# EAGLE library part STM32 (library Arduino)
Arduino Nano plug in module with SMT32 Nucleo-32 signal names
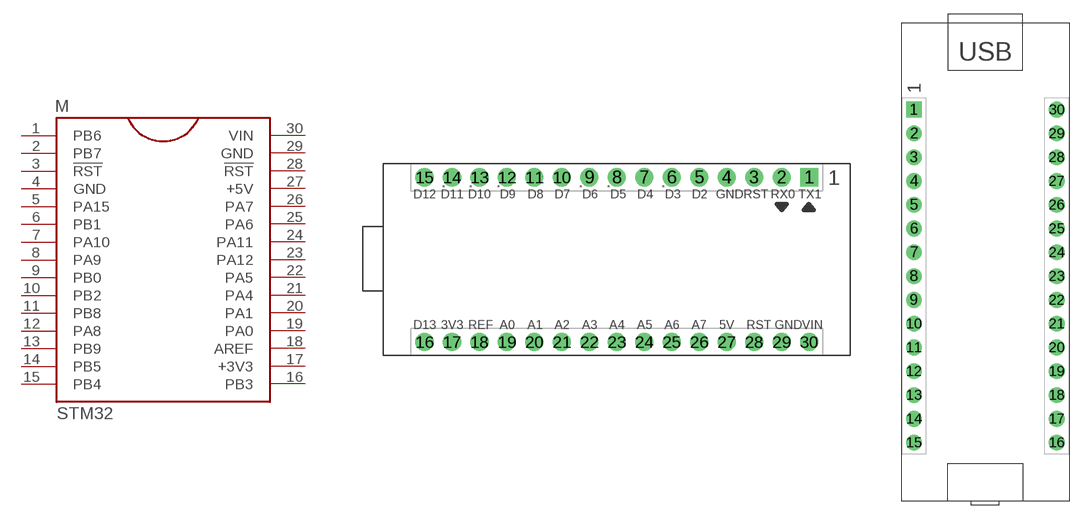
[diagram p3: symbol with the pads of ARDUINO_NANO; footprints ARDUINO_NANO, NUCLEO32]

Designator prefix M

## STM32  [ARDUINO_NANO]
1  PB6
2  PB7
3  !RST  in
4  GND  pas
5  PA15
6  PB1
7  PA10
8  PA9
9  PB0
10  PB2
11  PB8
12  PA8
13  PB9
14  PB5
15  PB4
16  PB3
17  +3V3  pas
18  AREF  pas
19  PA0
20  PA1
21  PA4
22  PA5
23  PA12
24  PA11
25  PA6
26  PA7
27  +5V  pas
28  !RST  in
29  GND  pas
30  VIN  pas

## STM32-NUCLEO32  [NUCLEO32]
Pads as for ARDUINO_NANO

## Footprint ARDUINO_NANO (pad centres in mm)
drill 0.914 pad 1.676 square: 1 17.78,7.62
drill 0.914 pad 1.676: 2 15.24,7.62; 3 12.7,7.62; 4 10.16,7.62; 5 7.62,7.62; 6 5.08,7.62; 7 2.54,7.62; 8 0,7.62; 9 -2.54,7.62; 10 -5.08,7.62; 11 -7.62,7.62; 12 -10.16,7.62; 13 -12.7,7.62; 14 -15.24,7.62; 15 -17.78,7.62; 16 -17.78,-7.62; 17 -15.24,-7.62; 18 -12.7,-7.62; 19 -10.16,-7.62; 20 -7.62,-7.62; 21 -5.08,-7.62; 22 -2.54,-7.62; 23 0,-7.62; 24 2.54,-7.62; 25 5.08,-7.62; 26 7.62,-7.62; 27 10.16,-7.62; 28 12.7,-7.62; 29 15.24,-7.62; 30 17.78,-7.62

## Footprint NUCLEO32 (pad centres in mm)
drill 0.914 pad 1.676 square: 1 -7.62,17.78
drill 0.914 pad 1.676: 2 -7.62,15.24; 3 -7.62,12.7; 4 -7.62,10.16; 5 -7.62,7.62; 6 -7.62,5.08; 7 -7.62,2.54; 8 -7.62,0; 9 -7.62,-2.54; 10 -7.62,-5.08; 11 -7.62,-7.62; 12 -7.62,-10.16; 13 -7.62,-12.7; 14 -7.62,-15.24; 15 -7.62,-17.78; 16 7.62,-17.78; 17 7.62,-15.24; 18 7.62,-12.7; 19 7.62,-10.16; 20 7.62,-7.62; 21 7.62,-5.08; 22 7.62,-2.54; 23 7.62,0; 24 7.62,2.54; 25 7.62,5.08; 26 7.62,7.62; 27 7.62,10.16; 28 7.62,12.7; 29 7.62,15.24; 30 7.62,17.78